# Altium integrated library TPS54227DDA.IntLib: 1 symbol
Pins are listed as number, name and electrical type; pins without a type are passive.

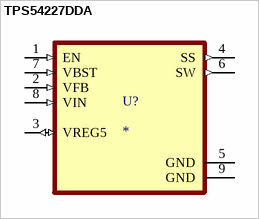
[diagram p0: symbol TPS54227DDA]

## TPS54227DDA
designator U?
MP: TPS54227DDA; Package: None; Price: None; Value: *; Availability: Unavailable
footprint VREG_LM5017MR/NOPB
pins: 1 EN (in), 2 VFB (in), 3 VREG5 (io), 4 SS (out), 5 GND (power), 6 SW (out), 7 VBST (in), 8 VIN (in), 9 GND